# EAGLE library part ACS758 (library FansElectronics-Modul)
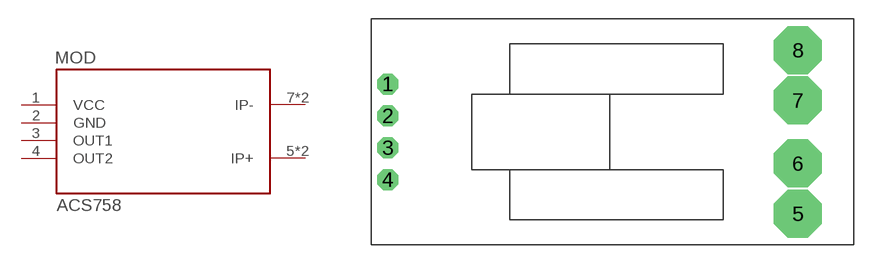
[diagram p37: symbol with the pads of ACS758; footprint ACS758]

Designator prefix MOD

## ACS758  [ACS758]
1  VCC  pwr
2  GND  pwr
3  OUT1
4  OUT2
5  IP+
6  IP+
7  IP-
8  IP-

## Footprint ACS758 (pad centres in mm)
drill 1 pad 1.676 octagon: 1 -17.58,3.81; 2 -17.58,1.27; 3 -17.58,-1.27; 4 -17.58,-3.81
drill 2 pad 3.81 octagon: 5 15.07,-6.51; 6 15.07,-2.51; 7 15.07,2.51; 8 15.07,6.51